# EAGLE library part M06 (library KwanSystems)
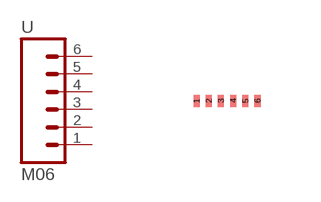
[diagram p8: symbol with the pads of M06_INTERFACE; footprint M06_INTERFACE]

Designator prefix -

## M06  [M06_INTERFACE]
1  1  pas
2  2  pas
3  3  pas
4  4  pas
5  5  pas
6  6  pas

## Footprint M06_INTERFACE (pad centres in mm)
smd 0.152 x 0.305: 1 0,0; 2 0.305,0; 3 0.61,0; 4 0.914,0; 5 1.219,0; 6 1.524,0